# Altium footprint library LED.PCBLIB: 68 footprints (part 1 of 5)
Each footprint in its own frame and in the unit in brackets; x right, y up, seen from the top. Pads: shape width x height; smd on the part's side, far side on the other; paste and mask are expansions set on the pad; w line width, h text height; cw(c..) or ccw(c..) is an arc to the next point about the centre after c.
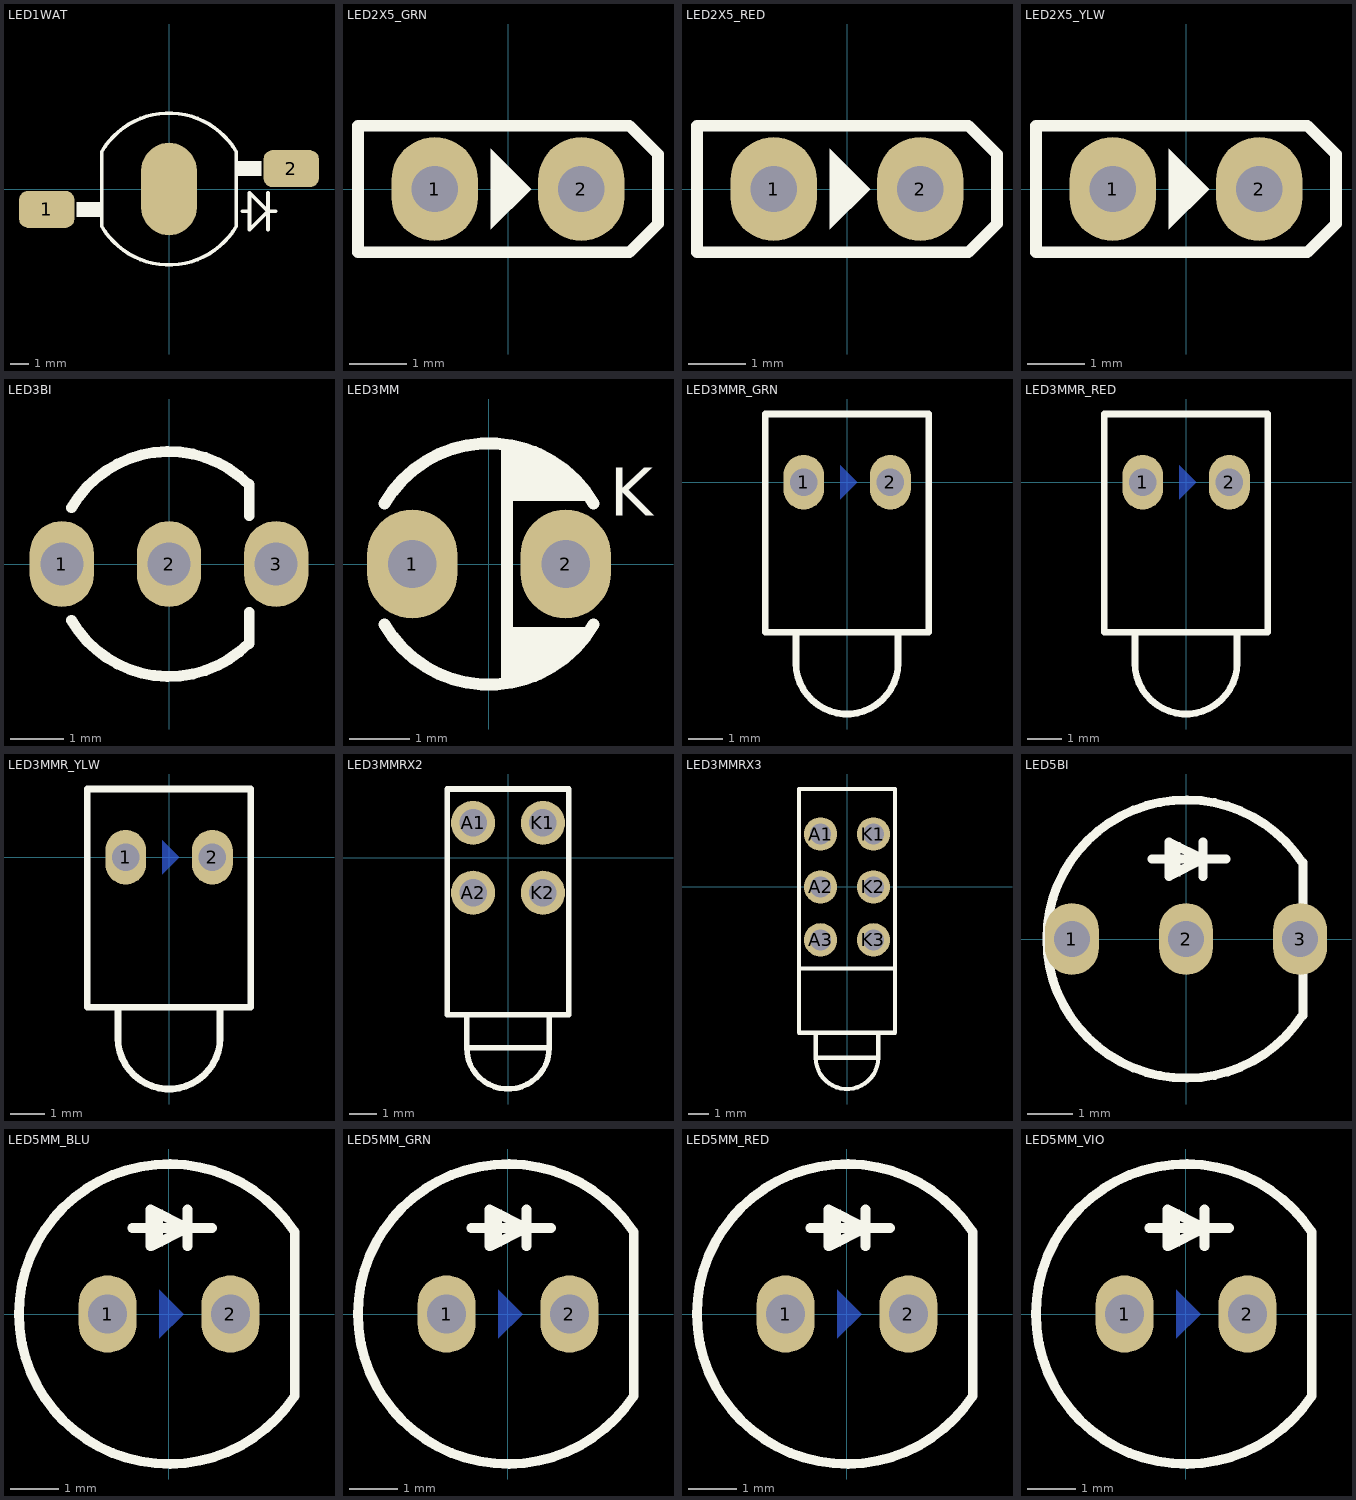
[diagram p0: the footprints below, top view; thin cyan lines are the x and y axes]

## LED1WAT [mm] "LED, 1WATT"
pads (3):
  rrect50% 3x2 smd: 1(-6.6,-1.1) 2(6.6,1.1)
  oval 3x5 smd: ""(0,0)
TopOverlay:
  rectangle: 3.637,0.7 5,1.5
  region: -3.637,-0.7 -5,-0.7 -5,-1.5 -3.637,-1.5
  lines w0.2: 3.95,-1.2 4.35,-1.2 ; 5.35,-2.2 5.35,-0.2 ; 5.75,-1.2 5.35,-1.2 ; 5.35,-1.2 4.35,-0.2 4.35,-2.2 5.35,-1.2 ; -3.637,-2 ccw(c0,0.1) 3.637,-2 3.637,2 ccw(c0,-0.1) -3.637,2 -3.637,-2
3D body "SW3dPS-Power LED2.STEP": height 5.55, standoff 0, extent -7.25,-4 7.25,4

## LED2X5_GRN [mm] "LED THD, 2X5mm"
pads (2):
  oval 1.5x1.8 hole 0.8: 1(-1.27,0) 2(1.27,0)
BottomLayer:
  region: -0.2,0.4 0.2,0 -0.2,-0.4
TopOverlay:
  region: -0.3,0.7 -0.3,-0.7 0.4,0
  lines w0.2: -2.6,-1.1 -2.6,1.1 2.1,1.1 2.6,0.6 2.6,-0.6 2.1,-1.1 -2.6,-1.1
3D body "LED2X5_GRN.STEP": height 8.5, standoff -4.83, extent -2.5,-1 2.5,1

## LED2X5_RED [mm] "LED THD, 2X5mm"
pads (2):
  oval 1.5x1.8 hole 0.8: 1(-1.27,0) 2(1.27,0)
BottomLayer:
  region: -0.2,0.4 0.2,0 -0.2,-0.4
TopOverlay:
  region: -0.3,0.7 -0.3,-0.7 0.4,0
  lines w0.2: -2.6,-1.1 2.1,-1.1 2.6,-0.6 2.6,0.6 2.1,1.1 -2.6,1.1 -2.6,-1.1
3D body "LED2X5_RED.STEP": height 8.5, standoff -4.83, extent -2.5,-1 2.5,1

## LED2X5_YLW [mm] "LED THD, 2X5mm"
pads (2):
  oval 1.5x1.8 hole 0.8: 1(-1.27,0) 2(1.27,0)
BottomLayer:
  region: -0.2,0.4 0.2,0 -0.2,-0.4
TopOverlay:
  region: -0.3,0.7 -0.3,-0.7 0.4,0
  lines w0.2: -2.6,-1.1 2.1,-1.1 2.6,-0.6 2.6,0.6 2.1,1.1 -2.6,1.1 -2.6,-1.1
3D body "LED2X5_YLW.step": height 8.5, standoff -4.83, extent -2.5,-1 2.5,1

## LED3BI [mm] "LED THD 5MM BICOLOR"
pads (3):
  oval 1.2x1.6 hole 0.8: 1(-2,0) 2(0,0) 3(2,0)
TopOverlay:
  lines w0.2: -1.819,-1.05 ccw(c0,0) 1.485,-1.485 ; -1.819,1.05 cw(c0,0) 1.485,1.485 ; 1.5,-1.485 1.5,-0.9 ; 1.5,0.9 1.5,1.485
3D body "led3mmbi_WP3V.STEP": height 7.4, standoff -22.1, extent -2.35,-1.998 2.35,1.998

## LED3MM [mm] "LED THD 3MM"
pads (2):
  oval 1.5x1.8 hole 0.8: 1(-1.27,0) 2(1.27,0)
TopOverlay:
  region: 0.3,1.95 0.3,1.05 1.682,1.05 0.782,1.95
  region: 0.3,-1.95 0.3,-1.05 1.682,-1.05 0.782,-1.95
  lines w0.2: -1.732,-1 ccw(c0,0) 1.732,-1 ; -1.732,1 cw(c0,0) 1.732,1 ; 0.3,-1.95 0.3,1.95
  text "K" at 2,0.8 h0.8
3D body "CircuitWorks-LED DIP 3MM.step": height 6.5, standoff -2, extent -1.9,-1.9 1.6,1.9

## LED3MMR_GRN [mm] "LED THD 3MM RIGHT ANGLE, GREEN"
pads (2):
  oval 1.2x1.6 hole 0.8: 1(-1.27,0) 2(1.27,0)
BottomLayer:
  region: -0.2,0.5 -0.2,-0.5 0.3,0
TopOverlay:
  lines w0.2: -1.5,-4.4 -1.5,-5.3 ccw(c0,-5.3) 1.5,-5.3 1.5,-4.4 ; -2.4,-4.4 2.4,-4.4 2.4,2 -2.4,2 -2.4,-4.4
3D body "LEDd3YC-Green.STEP": height 7.31, standoff -2.49, extent -2.323,-6.832 2.3,1.927

## LED3MMR_RED [mm] "LED THD 3MM RIGHT ANGLE, RED"
pads (2):
  oval 1.2x1.6 hole 0.8: 1(-1.27,0) 2(1.27,0)
BottomLayer:
  region: -0.2,0.5 -0.2,-0.5 0.3,0
TopOverlay:
  lines w0.2: -1.5,-4.4 -1.5,-5.3 ccw(c0,-5.3) 1.5,-5.3 1.5,-4.4 ; -2.4,-4.4 -2.4,2 2.4,2 2.4,-4.4 -2.4,-4.4
3D body "LEDd3YC-Red.STEP": height 7.31, standoff -2.49, extent -2.323,-6.832 2.3,1.927

## LED3MMR_YLW [mm] "LED THD 3MM RIGHT ANGLE, YELLOW"
pads (2):
  oval 1.2x1.6 hole 0.8: 1(-1.27,0) 2(1.27,0)
BottomLayer:
  region: -0.2,0.5 -0.2,-0.5 0.3,0
TopOverlay:
  lines w0.2: -1.5,-4.4 -1.5,-5.3 ccw(c0,-5.3) 1.5,-5.3 1.5,-4.4 ; -2.4,-4.4 -2.4,2 2.4,2 2.4,-4.4 -2.4,-4.4
3D body "LEDd3YC-Yellow.STEP": height 7.31, standoff -2.49, extent -2.323,-6.832 2.3,1.927

## LED3MMRX2 [mm] "LED THD 3MM Bi-Level Right Angle, 553-0121F"
pads (4):
  round 1.6 / inner round 1.6 / far side oval 1.6x2 hole 1: A1(-1.27,1.27) A2(-1.27,-1.27) K1(1.27,1.27) K2(1.27,-1.27)
TopOverlay:
  lines w0.2: -1.5,-5.7 -1.5,-6.9 ; 1.5,-5.7 1.5,-6.9 ; -1.5,-6.9 ccw(c0,-6.9) 1.5,-6.9 ; -1.5,-6.9 1.5,-6.9 ; -2.2,-5.7 2.2,-5.7 2.2,2.5 -2.2,2.5 -2.2,-5.7
Mechanical 29:
  text ".Designator" at -5.43,-1.27 h1.52
3D body "LED3MMRX2.step": height 9.65, standoff -3.68, extent -2.15,-8.55 2.168,2.448

## LED3MMRX3 [mm] "LED THD 3MM Tri-Level Right Angle"
height 15.24
pads (6):
  round 1.6 / inner round 1.6 / far side oval 1.6x2 hole 1: A1(-1.27,2.54) A2(-1.27,0) A3(-1.27,-2.54) K1(1.27,2.54) K2(1.27,0) K3(1.27,-2.54)
TopOverlay:
  lines w0.2: -2.3,-3.922 2.3,-3.922 ; -1.5,-7 -1.5,-8.2 ; 1.5,-7 1.5,-8.2 ; -1.5,-8.2 ccw(c0,-8.2) 1.5,-8.2 ; -1.5,-8.2 1.5,-8.2 ; -2.3,-7 -2.3,4.7 2.3,4.7 2.3,-7 -2.3,-7
3D body "LED bar 3-high 3mm.STEP": height 15.34, standoff -3.58, extent -2.16,-9.655 2.16,4.575

## LED5BI [mm] "LED THD 5MM BICOLOR"
pads (3):
  oval 1.2x1.6 hole 0.8: 1(-2.54,0) 2(0,0) 3(2.54,0)
TopOverlay:
  rectangle: -0.381,1.397 -0.127,2.159
  lines w0.2: -0.762,1.778 0.889,1.778 ; 0.381,1.397 0.381,2.159 ; 2.6,-1.7 2.6,1.7 ; 2.6,-1.688 cw(c0,0) 2.6,1.688 ; -0.381,1.397 0.381,1.778 -0.381,2.159 -0.381,1.397
3D body "User Library-5mmBiColorLED.step": height 11.01, standoff -2.43, extent -2.946,-2.946 2.794,2.946

## LED5MM_BLU [mm] "LED THD 5MM BLUE"
pads (2):
  oval 1.2x1.6 hole 0.8: 1(-1.27,0) 2(1.27,0)
BottomLayer:
  region: -0.2,0.5 -0.2,-0.5 0.3,0
TopOverlay:
  rectangle: -0.381,1.397 -0.127,2.159
  lines w0.2: -0.762,1.778 0.889,1.778 ; 0.381,1.397 0.381,2.159 ; 2.6,-1.7 2.6,1.7 ; 2.6,-1.688 cw(c0,0) 2.6,1.688 ; -0.381,1.397 0.381,1.778 -0.381,2.159 -0.381,1.397
3D body "LED-D5R.step": height 9.14, standoff -6.3, extent -3,-3 2.5,3

## LED5MM_GRN [mm] "LED THD 5MM GREEN"
pads (2):
  oval 1.2x1.6 hole 0.8: 1(-1.27,0) 2(1.27,0)
BottomLayer:
  region: -0.2,0.5 -0.2,-0.5 0.3,0
TopOverlay:
  rectangle: -0.381,1.397 -0.127,2.159
  lines w0.2: -0.762,1.778 0.889,1.778 ; 0.381,1.397 0.381,2.159 ; 2.6,-1.7 2.6,1.7 ; 2.6,-1.688 cw(c0,0) 2.6,1.688 ; -0.381,1.397 -0.381,2.159 0.381,1.778 -0.381,1.397
3D body "LED-D5G.step": height 9.14, standoff -6.3, extent -3,-3 2.5,3

## LED5MM_RED [mm] "LED THD 5MM RED"
pads (2):
  oval 1.2x1.6 hole 0.8: 1(-1.27,0) 2(1.27,0)
BottomLayer:
  region: -0.2,0.5 -0.2,-0.5 0.3,0
TopOverlay:
  rectangle: -0.381,1.397 -0.127,2.159
  lines w0.2: -0.762,1.778 0.889,1.778 ; 0.381,1.397 0.381,2.159 ; 2.6,-1.7 2.6,1.7 ; 2.6,-1.688 cw(c0,0) 2.6,1.688 ; -0.381,1.397 -0.381,2.159 0.381,1.778 -0.381,1.397
3D body "LED-D5R.step": height 9.14, standoff -6.3, extent -3,-3 2.5,3

## LED5MM_VIO [mm] "LED THD 5MM VIOLET"
pads (2):
  oval 1.2x1.6 hole 0.8: 1(-1.27,0) 2(1.27,0)
BottomLayer:
  region: -0.2,0.5 -0.2,-0.5 0.3,0
TopOverlay:
  rectangle: -0.381,1.397 -0.127,2.159
  lines w0.2: -0.762,1.778 0.889,1.778 ; 0.381,1.397 0.381,2.159 ; 2.6,-1.7 2.6,1.7 ; 2.6,-1.688 cw(c0,0) 2.6,1.688 ; -0.381,1.397 -0.381,2.159 0.381,1.778 -0.381,1.397
3D body "LED-D5R.step": height 9.14, standoff -6.3, extent -3,-3 2.5,3